# Altium footprint library ISD1760SY.PcbLib: 1 footprints
Each footprint in its own frame and in the unit in brackets; x right, y up, seen from the top. Pads: shape width x height; smd on the part's side, far side on the other; paste and mask are expansions set on the pad; w line width, h text height; cw(c..) or ccw(c..) is an arc to the next point about the centre after c.
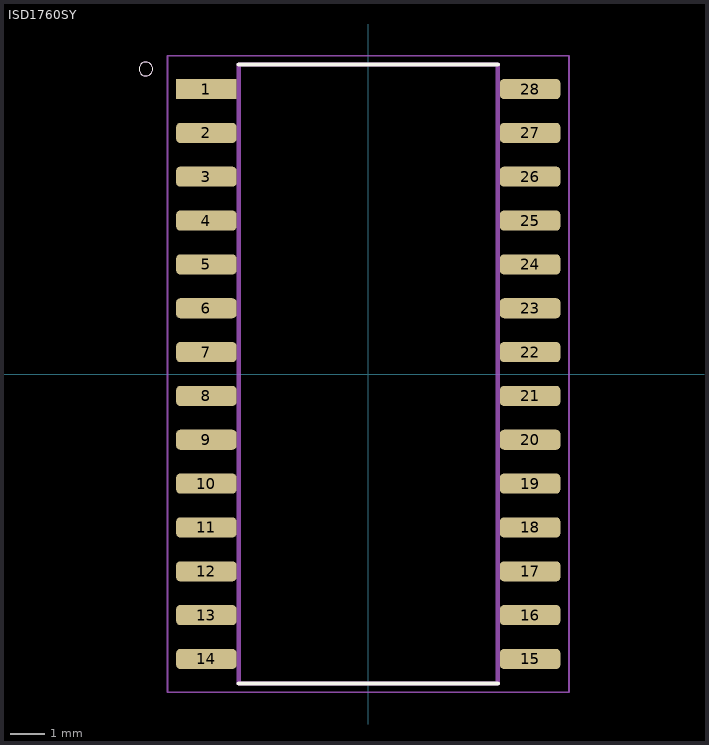
[diagram p0: the footprint, top view; thin cyan lines are the x and y axes]

## ISD1760SY [mm]
pads (28):
  rect 1.75x0.58 smd: 1(-4.69,8.255)
  rrect40% 1.75x0.58 smd: 2(-4.69,6.985) 3(-4.69,5.715) 4(-4.69,4.445) 5(-4.69,3.175) 6(-4.69,1.905) 7(-4.69,0.635) 8(-4.69,-0.635) 9(-4.69,-1.905) 10(-4.69,-3.175) 11(-4.69,-4.445) 12(-4.69,-5.715) 13(-4.69,-6.985) 14(-4.69,-8.255) 15(4.69,-8.255) 16(4.69,-6.985) 17(4.69,-5.715) 18(4.69,-4.445) 19(4.69,-3.175) 20(4.69,-1.905) 21(4.69,-0.635) 22(4.69,0.635) 23(4.69,1.905) 24(4.69,3.175) 25(4.69,4.445) 26(4.69,5.715) 27(4.69,6.985) 28(4.69,8.255)
Top Overlay:
  circle w0: c-6.44,8.835 r0.2
  lines w0.127: -3.752,-8.968 3.752,-8.968 ; -3.752,8.968 3.752,8.968
Mechanical 13:
  circle w0: c-6.44,8.835 r0.2
  lines w0.127: -3.752,-8.968 -3.752,8.968 3.752,8.968 3.752,-8.968 -3.752,-8.968
Mechanical 15:
  lines w0.05: -5.815,-9.217 -5.815,9.217 5.815,9.217 5.815,-9.217 -5.815,-9.217
3D body "73S8010C-IL_F.STEP": height 2.65, standoff 0, extent -5.162,-8.95 5.162,8.95